# Altium schematic symbol library SCH - POWER - LINEAR VREG - TI LM9076BMA-3.3.SchLib: 1 symbol
Pins are listed as number, name and electrical type; pins without a type are passive.

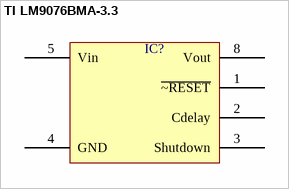
[diagram p0: symbol TI LM9076BMA-3.3]

## TI LM9076BMA-3.3
designator IC?  (value not drawn)
pins: 1 ~{~RESET}, 2 Cdelay, 3 Shutdown, 4 GND, 5 Vin, 8 Vout